# Altium integrated library MCP6001T-I_OT.IntLib: 1 symbol
Pins are listed as number, name and electrical type; pins without a type are passive.

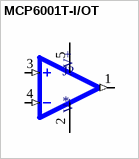
[diagram p0: symbol MCP6001T-I/OT]

## MCP6001T-I/OT
designator J?
Microchip Op Amp, 1MHz CMOS, Rail to Rail, 3 V, 5 V, 5-Pin SOT-23 | Microchip Technology Inc. MCP6001T-I/OT; SnapEDA_Link: https://www.snapeda.com/parts/MCP6001T-I/OT/Microchip/view-part/?ref=snap; Package: SOT-23 Microchip; Value: *; MF: Microchip; MP: MCP6001T-I/OT; Check_prices: https://www.snapeda.com/parts/MCP6001T-I/OT/Microchip/view-part/?ref=eda
footprint SOT95P270X145-5N
pins: 1 VOUT (out), 2 VSS (power), 3 VIN+ (in), 4 VIN- (in), 5 VDD (power)
text: V+; V-